# EAGLE library part ADP-2-1 (library minicircuits)
Power Splitter/Combiner 2 Way-0° 50 R Internal load dissipation: 0.125 Watt Matched power rating: 0.5 Watt Non-hermetic Pins 2 & 5 must be connected together on PC board ADP-2-1 2 Way-0° Frequency MHz Isolation, dB Insertion Loss, dB Above 3.0dB Phase Unbalance Degrees Amplitude Unbalance, dB Power Input, W fL - fU L Typ. Min. M Typ. Min. U Typ. Min. L Typ. Max. M Typ. Max. U Typ. Max. L Max. M Max. U Max. L Max. M Max. U Max. as Combiner Max. as Splitter Max. 0.50-400 25 20 25 20 25 20 0.20 0.40 0.30 0.60 0.50 1.00 1.00 2.00 3.00 0.10 0.20 0.30 0.50 L=low range(fL to 10fL) M=mid range(10fL to fU/2) U=upper range(fU/2 to fU) FREQ (MHz) Insertion Loss Amplitude Unbalance (dB) Isolation Phase Unbalance (Degrees) FREQ (MHz) VSWR S VSWR 1 VSWR 2 (dB) S-1 (dB) S-2 (dB) 1-2 0.500 3.13 3.13 0.000 30.12 0.03 0.500 1.06 1.08 1.08 0.550 3.13 3.13 0.000 30.45 0.03 0.550 1.06 1.07 1.07 0.600 3.14 3.14 0.010 30.74 0.03 0.600 1.06 1.07 1.07 0.700 3.14 3.13 0.010 31.22 0.00 0.700 1.06 1.06 1.06 0.800 3.13 3.13 0.000 31.59 0.01 0.800 1.05 1.06 1.06 0.900 3.13 3.12 0.000 31.89 0.05 0.900 1.05 1.05 1.05 1.000 3.12 3.13 0.000 32.17 0.05 1.000 1.05 1.05 1.05 2.000 3.11 3.12 0.000 33.79 0.02 2.00 1.04 1.03 1.03 3.000 3.11 3.12 0.000 34.39 0.01 3.00 1.04 1.03 1.02 4.000 3.12 3.12 0.000 34.59 0.02 4.00 1.04 1.02 1.02 5.000 3.12 3.12 0.010 34.69 0.01 5.00 1.04 1.02 1.02 6.000 3.12 3.12 0.000 34.63 0.01 6.00 1.03 1.02 1.02 7.000 3.13 3.13 0.000 34.64 0.07 7.00 1.03 1.01 1.01 8.000 3.14 3.13 0.010 34.59 0.02 8.00 1.03 1.01 1.01 9.000 3.14 3.13 0.000 34.54 0.03 9.00 1.03 1.01 1.01 10.00 3.13 3.13 0.000 34.46 0.05 10.00 1.03 1.01 1.01 20.00 3.15 3.15 0.000 33.85 0.00 20.00 1.03 1.01 1.01 30.00 3.16 3.16 0.000 33.18 0.04 30.00 1.03 1.01 1.01 40.00 3.16 3.16 0.000 32.53 0.02 40.00 1.03 1.01 1.01 50.00 3.17 3.17 0.000 31.88 0.01 50.00 1.04 1.01 1.01 60.00 3.18 3.19 0.010 31.23 0.04 60.00 1.04 1.01 1.01 70.00 3.19 3.19 0.000 30.64 0.07 70.00 1.05 1.01 1.01 80.00 3.20 3.20 0.000 30.08 0.05 80.00 1.05 1.01 1.01 90.00 3.21 3.21 0.000 29.53 0.11 90.00 1.05 1.01 1.01 100.00 3.21 3.21 0.000 29.04 0.11 100.00 1.06 1.01 1.01 120.00 3.21 3.22 0.010 28.15 0.07 120.00 1.06 1.02 1.02 140.00 3.25 3.25 0.000 27.36 0.06 140.00 1.07 1.02 1.02 160.00 3.26 3.25 0.010 26.67 0.12 160.00 1.08 1.02 1.02 180.00 3.27 3.26 0.000 26.09 0.12 180.00 1.08 1.03 1.03 200.00 3.28 3.27 0.010 25.63 0.08 200.00 1.09 1.03 1.03 220.00 3.26 3.27 0.010 25.20 0.19 220.00 1.09 1.03 1.03 240.00 3.29 3.27 0.010 24.87 0.14 240.00 1.09 1.04 1.04 260.00 3.35 3.34 0.000 24.65 0.19 260.00 1.09 1.05 1.05 280.00 3.34 3.35 0.000 24.45 0.19 280.00 1.09 1.05 1.05 300.00 3.31 3.30 0.010 24.34 0.17 300.00 1.09 1.06 1.06 320.00 3.33 3.32 0.000 24.36 0.26 320.00 1.08 1.07 1.07 340.00 3.37 3.37 0.010 24.50 0.29 340.00 1.07 1.08 1.08 360.00 3.38 3.37 0.000 24.69 0.24 360.00 1.07 1.09 1.09 380.00 3.42 3.42 0.000 24.97 0.28 380.00 1.05 1.10 1.10 400.00 3.41 3.41 0.000 25.39 0.37 400.00 1.04 1.11 1.12
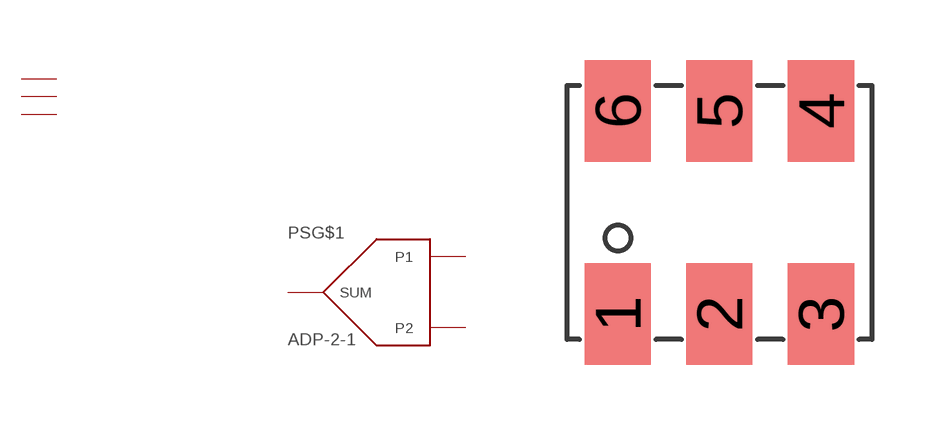
[diagram p13: symbol with the pads of CD636; footprint CD636]

Designator prefix PS; gates G$1=POWER_SPLITTER-2W G$2=GND G$3=NC G$4=NC

## ADP-2-1  [CD636]
1  G$1:SUM
2  G$4:NC  nc
3  G$1:P1
4  G$1:P2
5  G$3:NC  nc
6  G$2:GND  pwr

## Footprint CD636 (pad centres in mm)
CD636 http://www.minicircuits.com/cgi-bin/inquery.cgi?querystring=CD636&searchtype=case&x=21&y=7
smd 1.651 x 2.54: 1 0,0; 2 2.54,0; 3 5.08,0; 4 5.08,5.08; 5 2.54,5.08; 6 0,5.08